# Altium footprint library connectors.PcbLib: 143 footprints (part 3 of 9)
Each footprint in its own frame and in the unit in brackets; x right, y up, seen from the top. Pads: shape width x height; smd on the part's side, far side on the other; paste and mask are expansions set on the pad; w line width, h text height; cw(c..) or ccw(c..) is an arc to the next point about the centre after c.
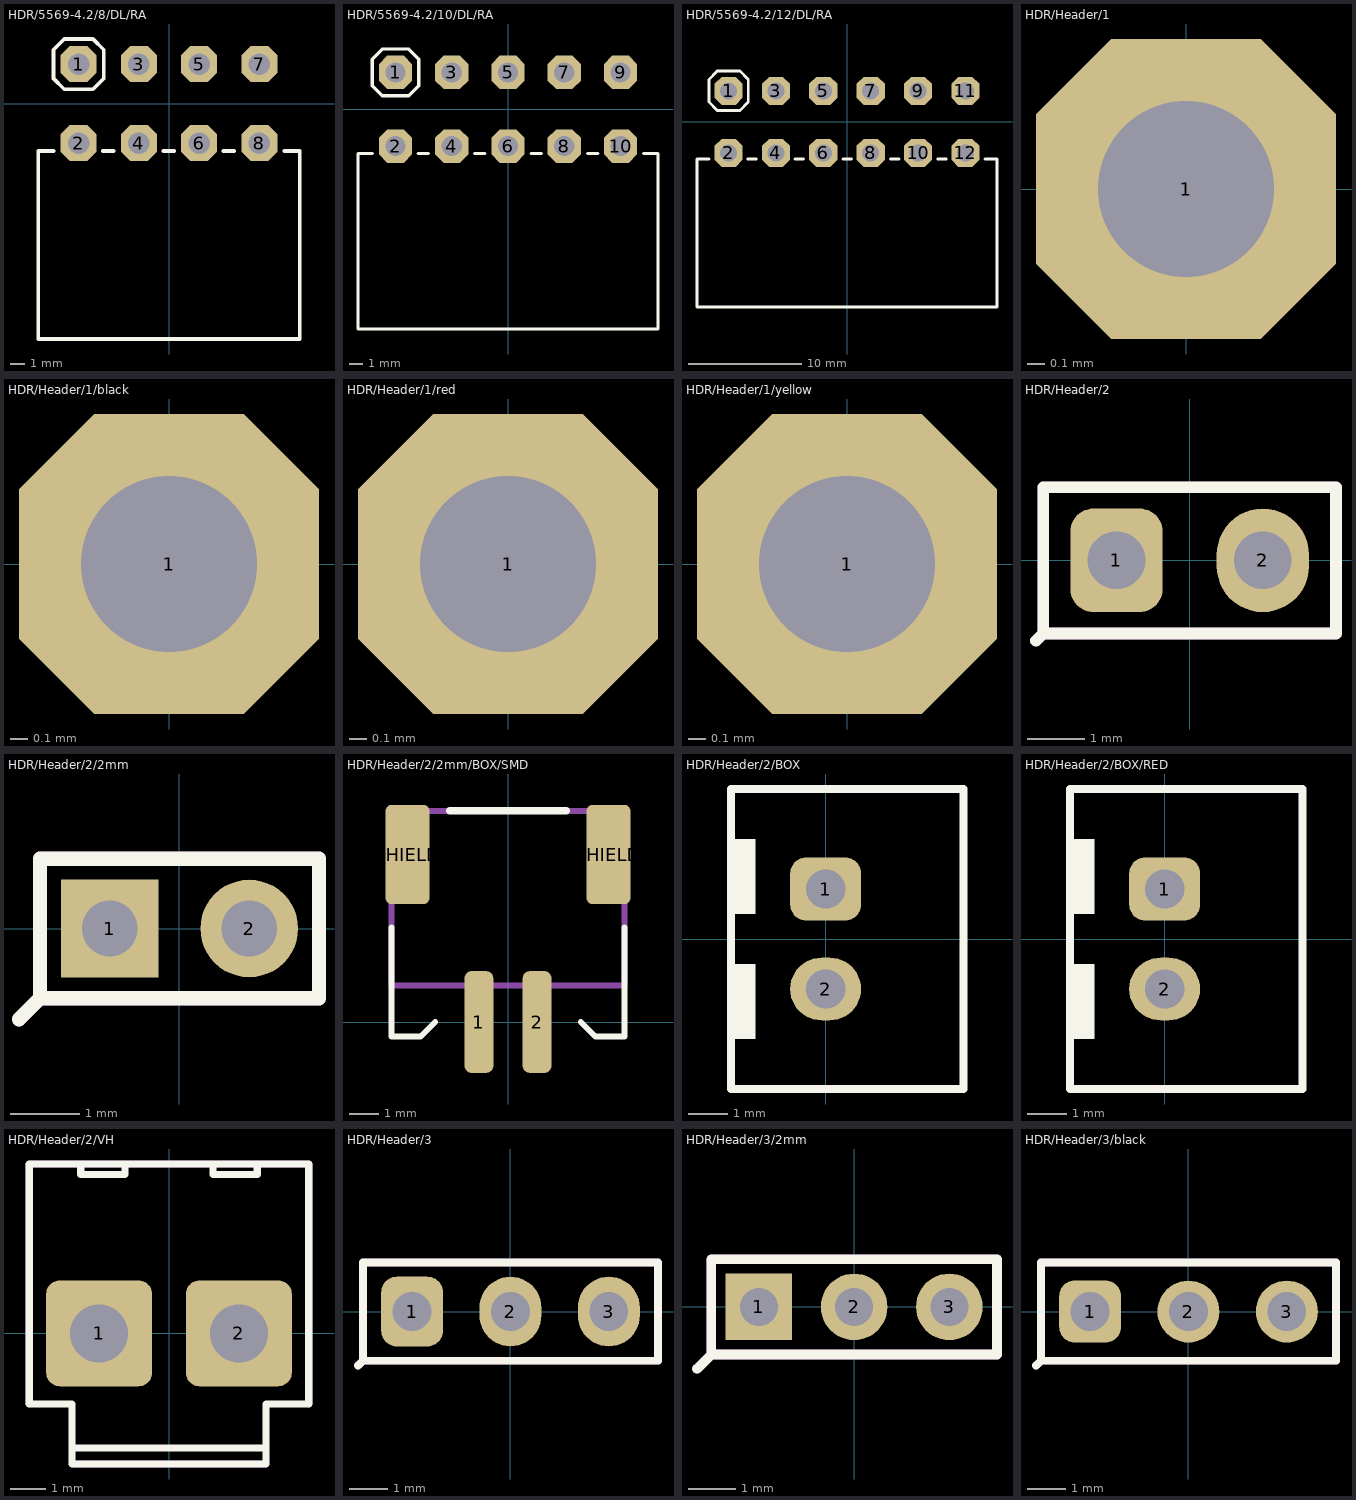
[diagram p2: the footprints below, top view; thin cyan lines are the x and y axes]

## HDR/5569-4.2/8/DL/RA [mm] "Header 6, 6 pin, hight 300mil, Pin to Pin 200, Colour Green"
height 7.62
pads (8):
  oct 2.5x2.5 hole 1.5: 1(-6.3,2.75) 2(-6.3,-2.75) 3(-2.1,2.75) 4(-2.1,-2.75) 5(2.1,2.75) 6(2.1,-2.75) 7(6.3,2.75) 8(6.3,-2.75)
Top Overlay:
  lines w0.254: -8.05,-3.3 -9.1,-3.3 -9.1,-16.4 9.1,-16.4 9.1,-3.3 8.05,-3.3 ; -4.6,-3.3 -3.85,-3.3 ; -0.4,-3.3 0.35,-3.3 ; 3.8,-3.3 4.55,-3.3 ; -8.05,1.75 -8.05,3.75 -7.3,4.5 -5.3,4.5 -4.55,3.75 -4.55,1.75 -5.3,1 -7.3,1 -8.05,1.75
3D body "39-29-1088_4679.stp": height 11.4, standoff -3.5, extent -14,-16.65 14,3.25

## HDR/5569-4.2/10/DL/RA [mm] "Header 6, 6 pin, hight 300mil, Pin to Pin 200, Colour Green"
height 7.62
pads (10):
  oct 2.5x2.5 hole 1.5: 1(-8.4,2.75) 2(-8.4,-2.75) 3(-4.2,2.75) 4(-4.2,-2.75) 5(0,2.75) 6(0,-2.75) 7(4.2,2.75) 8(4.2,-2.75) 9(8.4,2.75) 10(8.4,-2.75)
Top Overlay:
  lines w0.254: -10.15,-3.3 -11.2,-3.3 -11.2,-16.4 11.2,-16.4 11.2,-3.3 10.15,-3.3 ; -6.7,-3.3 -5.95,-3.3 ; -2.5,-3.3 -1.75,-3.3 ; 1.75,-3.3 2.5,-3.3 ; 5.95,-3.3 6.7,-3.3 ; -10.15,1.75 -10.15,3.75 -9.4,4.5 -7.4,4.5 -6.65,3.75 -6.65,1.75 -7.4,1 -9.4,1 -10.15,1.75
3D body "39-29-1107_4680.stp": height 11.4, standoff -3.5, extent -16.1,-16.65 16.1,3.25

## HDR/5569-4.2/12/DL/RA [mm] "Header 6, 6 pin, hight 300mil, Pin to Pin 200, Colour Green"
height 7.62
pads (12):
  oct 2.5x2.5 hole 1.5: 1(-10.5,2.75) 2(-10.5,-2.75) 3(-6.3,2.75) 4(-6.3,-2.75) 5(-2.1,2.75) 6(-2.1,-2.75) 7(2.1,2.75) 8(2.1,-2.75) 9(6.3,2.75) 10(6.3,-2.75) 11(10.5,2.75) 12(10.5,-2.75)
Top Overlay:
  lines w0.254: -12.25,-3.3 -13.3,-3.3 -13.3,-16.4 13.3,-16.4 13.3,-3.3 12.25,-3.3 ; -8.8,-3.3 -8.05,-3.3 ; -4.6,-3.3 -3.85,-3.3 ; -0.35,-3.3 0.4,-3.3 ; 3.85,-3.3 4.6,-3.3 ; 8.05,-3.3 8.8,-3.3 ; -12.25,1.75 -11.5,1 -9.5,1 -8.75,1.75 -8.75,3.75 -9.5,4.5 -11.5,4.5 -12.25,3.75 -12.25,1.75
3D body "39-29-1127_4682.stp": height 11.4, standoff -3.5, extent -18.2,-16.65 18.2,3.25

## HDR/Header/1 [mm]
pads (1):
  oct 1.7x1.7 hole 1: 1(0,0)
3D body "header-1-black.STEP": height 8.89, standoff -3.05, extent -1.27,-1.27 1.27,1.27

## HDR/Header/1/black [mm]
pads (1):
  oct 1.7x1.7 hole 1: 1(0,0)
3D body "header-1-black.STEP": height 8.89, standoff -3.05, extent -1.27,-1.27 1.27,1.27

## HDR/Header/1/red [mm]
pads (1):
  oct 1.7x1.7 hole 1: 1(0,0)
3D body "header-1-red.STEP": height 8.89, standoff -3.05, extent -1.27,-1.27 1.27,1.27

## HDR/Header/1/yellow [mm]
pads (1):
  oct 1.7x1.7 hole 1: 1(0,0)

## HDR/Header/2 [mm]
pads (2):
  rrect50% 1.6x1.8 hole 1: 1(-1.27,0)
  oval 1.6x1.8 hole 1: 2(1.27,0)
Top Overlay:
  lines w0.203: -2.667,-1.397 -2.54,-1.27 ; -2.54,-1.27 2.54,-1.27 2.54,1.27 -2.54,1.27 -2.54,-1.27
Mechanical 1:
  lines w0.203: -2.667,-1.397 -2.54,-1.27 ; -2.54,-1.27 2.54,-1.27 2.54,1.27 -2.54,1.27 -2.54,-1.27
3D body "Samtec Header 2pin 2.54mm.STEP": height 8.89, standoff -2.03, extent -2.54,-1.27 2.54,1.27

## HDR/Header/2/2mm [mm]
pads (2):
  rect 1.4x1.4 hole 0.8: 1(-1,0)
  round 1.4 hole 0.8: 2(1,0)
Top Overlay:
  lines w0.203: -2.3,-1.3 -2,-1 ; -2,-1 -2,1 2,1 2,-1 -2,-1
Mechanical 1:
  lines w0.203: -2.3,-1.3 -2,-1 ; -2,-1 -2,1 2,1 2,-1 -2,-1
3D body "pin_header_a-sl200-eg-g02d.stp": height 6, standoff -2.8, extent -1.975,-1 1.975,1

## HDR/Header/2/2mm/BOX/SMD [mm]
pads (4):
  rrect50% 1x3.5 smd: 1(-1,0) 2(1,0)
  rrect25% 1.5x3.4 smd: SHIELD(-3.45,5.75) SHIELD(3.45,5.75)
Top Overlay:
  lines w0.2: -4,3.25 -4,-0.5 -3,-0.5 -2.5,0 ; 2.5,0 3,-0.5 4,-0.5 4,3.25
  lines w0.25: -2,7.25 2,7.25
Mechanical 1:
  lines w0.2: -4,1.25 -4,7.25 4,7.25 4,1.25 -4,1.25
3D body "S2B-PH-SM4-TB.stp": height 4.8, standoff 0, extent -3.95,-1.35 3.95,7.25

## HDR/Header/2/BOX [mm]
pads (2):
  rrect50% 1.8x1.6 hole 1: 1(0,1.27)
  oval 1.8x1.6 hole 1: 2(0,-1.27)
Top Overlay:
  rectangle: -2.413,-2.54 -1.778,-0.635
  rectangle: -2.413,0.635 -1.778,2.54
  lines w0.203: -2.4,-3.81 -2.4,3.81 3.5,3.81 3.5,-3.81 -2.4,-3.81
3D body "B2B-XH-WHITE.STEP": height 7, standoff -3.4, extent -2.35,-3.7 3.4,3.7

## HDR/Header/2/BOX/RED [mm]
pads (2):
  rrect50% 1.8x1.6 hole 1: 1(0,1.27)
  oval 1.8x1.6 hole 1: 2(0,-1.27)
Top Overlay:
  rectangle: -2.413,-2.54 -1.778,-0.635
  rectangle: -2.413,0.635 -1.778,2.54
  lines w0.203: -2.4,-3.81 -2.4,3.81 3.5,3.81 3.5,-3.81 -2.4,-3.81
3D body "B2B-XH-RED.STEP": height 7, standoff -3.4, extent -2.35,-3.7 3.4,3.7

## HDR/Header/2/VH [mm]
pads (2):
  rrect25% 3x3 hole 1.65: 1(-1.98,0) 2(1.98,0)
Top Overlay:
  lines w0.203: -2.75,-3.25 2.75,-3.25 ; -2.5,4.75 -2.5,4.5 -1.25,4.5 -1.25,4.8 ; 1.25,4.8 1.25,4.5 2.5,4.5 2.5,4.75 ; -3.96,-2 -3.96,4.8 3.96,4.8 3.96,-2 2.75,-2 2.75,-3.7 -2.75,-3.7 -2.75,-2 -3.96,-2
Mechanical 1:
  lines w0.203: -3.96,-2 -3.96,4.8 3.96,4.8 3.96,-2 ; -2.75,-3.7 2.75,-3.7
3D body "User Library-VH-2_3_96.step": height 10.6, standoff -3.7, extent -3.93,-3.7 3.93,4.8

## HDR/Header/3 [mm]
pads (3):
  rrect50% 1.6x1.8 hole 1: 1(-2.54,0)
  oval 1.6x1.8 hole 1: 2(0,0) 3(2.54,0)
Top Overlay:
  lines w0.203: -3.937,-1.397 -3.81,-1.27 ; -3.81,-1.27 -3.81,1.27 3.81,1.27 3.81,-1.27 -3.81,-1.27
Mechanical 1:
  lines w0.203: -3.937,-1.397 -3.81,-1.27 ; -3.81,-1.27 -3.81,1.27 3.81,1.27 3.81,-1.27 -3.81,-1.27
3D body "Samtec Header 3pin 2.54mm.STEP": height 8.89, standoff -2.03, extent -3.81,-1.27 3.81,1.27

## HDR/Header/3/2mm [mm]
pads (3):
  rect 1.4x1.4 hole 0.8: 1(-2,0)
  round 1.4 hole 0.8: 2(0,0) 3(2,0)
Top Overlay:
  lines w0.203: -3.3,-1.3 -3,-1 ; -3,-1 3,-1 3,1 -3,1 -3,-1
Mechanical 1:
  lines w0.203: -3.3,-1.3 -3,-1 ; -3,-1 3,-1 3,1 -3,1 -3,-1
3D body "pin_header_a-sl200-eg-g03d.stp": height 6, standoff -2.8, extent -2.975,-1 2.975,1

## HDR/Header/3/black [mm]
pads (3):
  rrect50% 1.6x1.6 hole 1: 1(-2.54,0)
  round 1.6 hole 1: 2(0,0) 3(2.54,0)
Top Overlay:
  lines w0.203: -3.937,-1.397 -3.81,-1.27 ; -3.81,-1.27 3.81,-1.27 3.81,1.27 -3.81,1.27 -3.81,-1.27
Mechanical 1:
  lines w0.203: -3.937,-1.397 -3.81,-1.27 ; -3.81,-1.27 3.81,-1.27 3.81,1.27 -3.81,1.27 -3.81,-1.27
3D body "header-1-black.STEP": height 8.89, standoff -3.05, extent 1.27,-1.27 3.81,1.27
3D body "header-1-black.STEP": height 8.89, standoff -3.05, extent -1.27,-1.27 1.27,1.27
3D body "header-1-black.STEP": height 8.89, standoff -3.05, extent -3.81,-1.27 -1.27,1.27